# EAGLE library part DB25_SOCKET_PTH (library SamacSys_Parts)
D-Sub PCB connector solder 25-pin M Harting 2.76mm Pitch 25 Way Right Angle Through Hole Mount PCB D-sub Connector, Plug Source: Datasheet <https://b2b.harting.com/files/download/PRD/PDF_TS/0965362X8X3_BL01_R31892_100078411DRW002A.pdf>
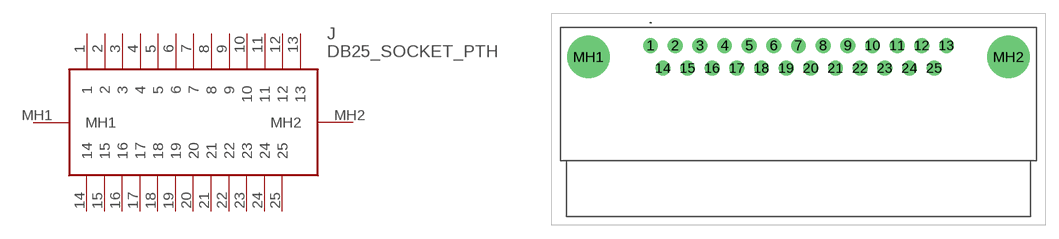
[diagram p8: symbol with the pads of 09653626813; footprint 09653626813]

Designator prefix J

## DB25_SOCKET_PTH (ARROW_PART_NUMBER: 09653626813; ARROW_PRICE-STOCK: https://www.arrow.com/en/products/09653626813/harting; DESCRIPTION: D-Sub PCB connector solder 25-pin M Harting 2.76mm Pitch 25 Way Right Angle Through Hole Mount PCB D-sub Connector, Plug; HEIGHT: 12mm; MANUFACTURER_NAME: HARTING; MANUFACTURER_PART_NUMBER: 09653626813; MOUSER_PART_NUMBER: 617-09653626813; MOUSER_PRICE-STOCK: https://www.mouser.co.uk/ProductDetail/HARTING/09653626813?qs=vMzbrHvTwPE5b3v8NCNnrA%3D%3D)  [09653626813]
1  1
2  2
3  3
4  4
5  5
6  6
7  7
8  8
9  9
10  10
11  11
12  12
13  13
14  14
15  15
16  16
17  17
18  18
19  19
20  20
21  21
22  22
23  23
24  24
25  25
MH1  MH1
MH2  MH2

## Footprint 09653626813 (pad centres in mm)
09653626813
drill 1.1 pad 1.65: 1 -16.56,12.94; 2 -13.8,12.94; 3 -11.04,12.94; 4 -8.28,12.94; 5 -5.52,12.94; 6 -2.76,12.94; 7 0,12.94; 8 2.76,12.94; 9 5.52,12.94; 10 8.28,12.94; 11 11.04,12.94; 12 13.8,12.94; 13 16.56,12.94; 14 -15.18,10.4; 15 -12.42,10.4; 16 -9.66,10.4; 17 -6.9,10.4; 18 -4.14,10.4; 19 -1.38,10.4; 20 1.38,10.4; 21 4.14,10.4; 22 6.9,10.4; 23 9.66,10.4; 24 12.42,10.4; 25 15.18,10.4
drill 3.2 pad 4.8: MH1 -23.5,11.67; MH2 23.5,11.67